# EAGLE library part ACS712 (library KIKS)
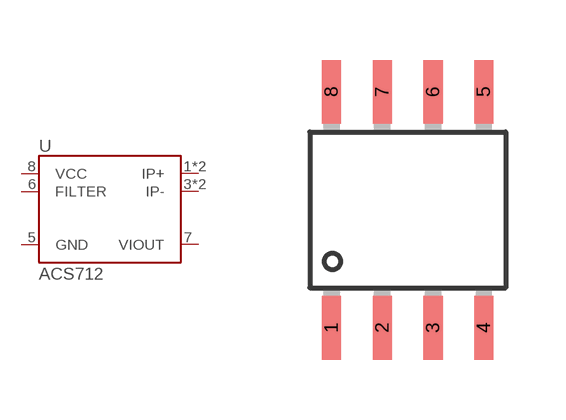
[diagram p4: symbol with the pads of SOP8; footprint SOP8]

Designator prefix U

## ACS712  [SOP8]
1  IP+
2  IP+
3  IP-
4  IP-
5  GND
6  FILTER
7  VIOUT
8  VCC

## Footprint SOP8 (pad centres in mm)
smd 0.48 x 1.6: 1 -1.905,-2.95; 2 -0.635,-2.95; 3 0.635,-2.95; 4 1.905,-2.95; 5 1.905,2.95; 6 0.635,2.95; 7 -0.635,2.95; 8 -1.905,2.95